# Altium footprint library Semiconductors.PcbLib: 45 footprints (part 3 of 3)
Each footprint in its own frame and in the unit in brackets; x right, y up, seen from the top. Pads: shape width x height; smd on the part's side, far side on the other; paste and mask are expansions set on the pad; w line width, h text height; cw(c..) or ccw(c..) is an arc to the next point about the centre after c.
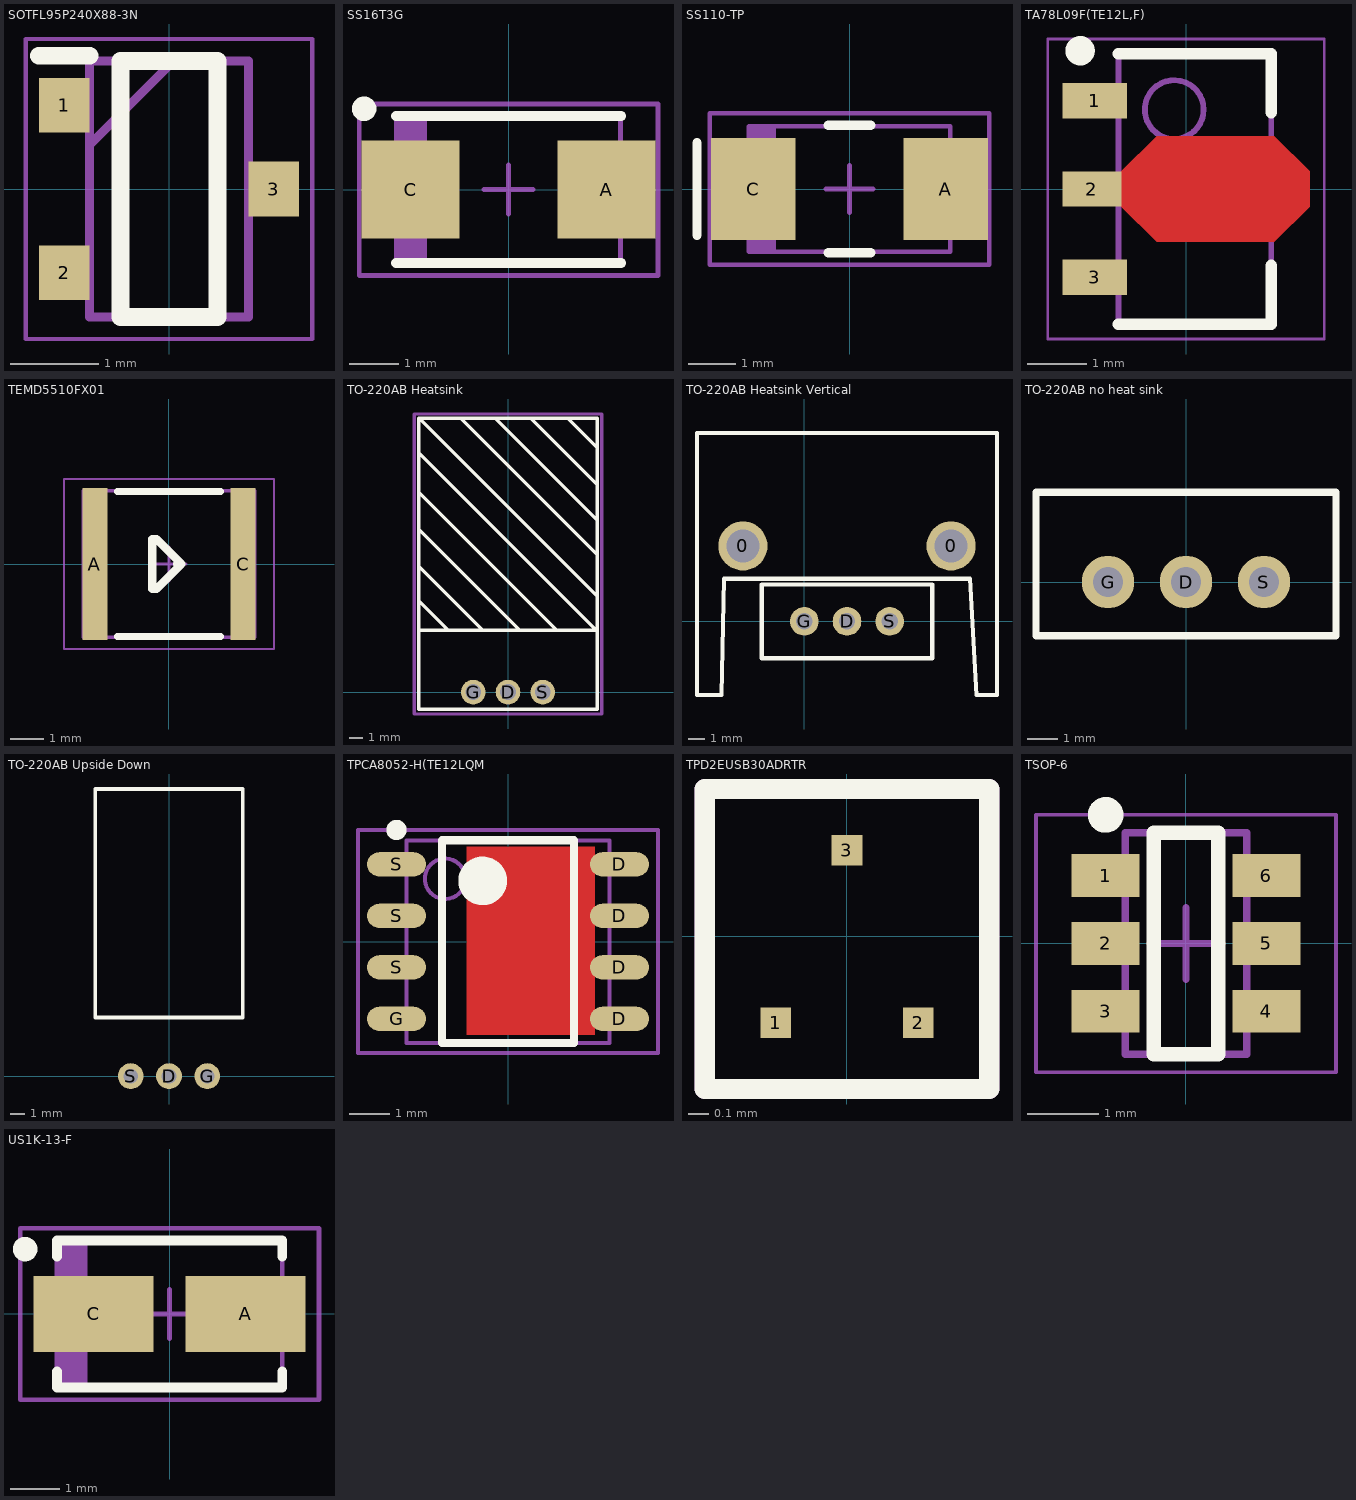
[diagram p2: the footprints below, top view; thin cyan lines are the x and y axes]

## SOTFL95P240X88-3N [mm]
pads (3):
  rect 0.575x0.62 smd: 1(-1.188,0.95) 2(-1.188,-0.95) 3(1.188,0)
Top Overlay:
  lines w0.2: -1.475,1.51 -0.9,1.51 ; -0.55,-1.45 0.55,-1.45 0.55,1.45 -0.55,1.45 -0.55,-1.45
Mechanical 13:
  lines w0.1: -0.9,0.5 0.05,1.45 ; -0.9,-1.45 0.9,-1.45 0.9,1.45 -0.9,1.45 -0.9,-1.45
Mechanical 15:
  lines w0.05: -1.625,-1.7 1.625,-1.7 1.625,1.7 -1.625,1.7 -1.625,-1.7
3D body "SSM3K329R,LF.stp": height 0.88, standoff 0, extent -1.2,-1.45 1.2,1.45

## SS16T3G [mm] "DIODE SCHOTTKY 60V 1A SMA"
height 2.2
pads (2):
  rect 2x2 smd: A(2,0) C(-2,0)
Top Overlay:
  circle w0.25: c-2.95,1.65 r0.125
  lines w0.2: -2.3,-1.5 2.3,-1.5 ; -2.3,1.5 2.3,1.5
Mechanical 13:
  rectangle: -2.285,-1.46 -1.67,1.46
  lines w0.1: -2.285,-1.46 2.285,-1.46 2.285,1.46 -2.285,1.46 -2.285,-1.46
Mechanical 15:
  lines w0.1: -0.5,0 0.5,0 ; 0,-0.5 0,0.5 ; -3.05,-1.75 3.05,-1.75 3.05,1.75 -3.05,1.75 -3.05,-1.75
3D body: height 2.2, standoff 0, extent -2.285,-1.46 2.285,1.46

## SS110-TP [mil] "DIODE SCHOTTKY 100V 1A SMA"
height 116.14
pads (2):
  rect 70x85 smd: A(80,0) C(-80,0)
Top Overlay:
  lines w7.87: -126.81,-38.56 -126.81,38.56 ; -17.72,-53.15 17.72,-53.15 ; -17.72,53.15 17.72,53.15
Mechanical 13:
  rectangle: -83.66,-52.17 -61.16,52.17
  lines w3.94: -83.66,-52.17 83.66,-52.17 83.66,52.17 -83.66,52.17 -83.66,-52.17
Mechanical 15:
  lines w3.94: -19.68,0 19.68,0 ; 0,-19.68 0,19.68 ; -116.14,-62.99 116.14,-62.99 116.14,62.99 -116.14,62.99 -116.14,-62.99
3D body: height 116.14, standoff 0, extent -83.66,-52.17 83.66,52.17

## TA78L09F(TE12L,F) [mm] "IC REG LDO 9V 0.15A PWMINI"
height 1.6
pads (3):
  rect 1.1x0.6 smd: 1(-1.55,1.5) 3(-1.55,-1.5)
  rect 1x0.6 smd: 2(-1.6,0)
Top Layer:
  region: -1.1,0.3 -0.5,0.9 1.5,0.9 2.1,0.3 2.1,-0.3 1.5,-0.9 -0.5,-0.9 -1.1,-0.3
Top Overlay:
  circle w0.25: c-1.8,2.35 r0.125
  lines w0.2: -1.15,-2.3 1.45,-2.3 1.45,-1.3 ; -1.15,2.3 1.45,2.3 1.45,1.3
Mechanical 13:
  circle w0.1: c-0.2,1.35 r0.5
  lines w0.1: -1.15,-2.3 -1.15,2.3 1.45,2.3 1.45,-2.3 -1.15,-2.3
Mechanical 15:
  lines w0.05: -2.35,-2.55 -2.35,2.55 2.35,2.55 2.35,-2.55 -2.35,-2.55
  lines w0.1: -0.35,0 0.65,0 ; 0.15,-0.5 0.15,0.5
3D body: height 1.6, standoff 0, extent -1.15,-2.3 1.45,2.3

## TEMD5510FX01 [mm] "PHOTODIODE PIN HI SPEED MINI SMD"
height 1.12
pads (2):
  rect 0.75x4.55 smd: A(-2.225,0) C(2.225,0)
Top Overlay:
  lines w0.2: -1.55,-2.175 1.55,-2.175 ; -1.55,2.175 1.55,2.175
  lines w0.254: 0.25,0 0.375,0 ; 0.375,0 -0.375,-0.75 -0.5,-0.75 -0.5,0.75 -0.375,0.75 0.375,0
Mechanical 13:
  lines w0.1: -2.575,-2.195 2.575,-2.195 2.575,2.195 -2.575,2.195 -2.575,-2.195
Mechanical 15:
  lines w0.05: -3.15,-2.55 3.15,-2.55 3.15,2.55 -3.15,2.55 -3.15,-2.55
  lines w0.1: -0.5,0 0.5,0 ; 0,-0.5 0,0.5
3D body: height 1.12, standoff 0, extent 2.075,-2.195 2.575,2.195
3D body: height 1.12, standoff 0, extent -2.575,-2.195 -2.075,2.195
3D body: height 1.12, standoff 0, extent -2.075,-2.195 2.075,2.195

## TO-220AB Heatsink [mm] "HEXFET Power MOSFET w/ Heat Sink"
height 12.7
pads (3):
  round 1.8 hole 1.15: D(0,0) G(-2.54,0) S(2.54,0)
Top Overlay:
  lines w0.25: -6.53,11.89 0.86,4.5 ; -6.53,14.59 3.51,4.55 ; -6.52,4.5 6.52,4.5 ; -6.48,6.64 -4.39,4.55 ; -6.48,9.14 -1.89,4.55 ; -6.48,17.44 6.42,4.54 ; -3.44,20 6.49,10.07 ; -0.94,20 6.49,12.57 ; 1.66,20 6.49,15.17 ; 4.36,20 6.49,17.87 ; 6.52,7 -6.48,20 -6.52,20 ; -6.52,20 -6.52,-1.25 6.52,-1.25 6.52,20 -6.52,20
Mechanical 15:
  lines w0.25: -6.84,-1.6 -6.84,20.3 6.84,20.3 6.84,-1.6 -6.84,-1.6
3D body: height 5.3, standoff 0, extent -6.44,4.5 6.36,19.9
3D body: height 12.7, standoff 0, extent -6.44,4.5 -4.04,19.9
3D body: height 12.7, standoff 0, extent 3.96,4.5 6.36,19.9
3D body: height 4.5, standoff 4, extent 2.06,0 3.06,4.7
3D body: height 4.5, standoff 4, extent -0.44,0 0.56,4.7
3D body: height 4.5, standoff 0, extent 1.96,-0.1 2.96,0.2
3D body: height 4.5, standoff 0, extent -0.5,-0.15 0.5,0.15
3D body: height 4.5, standoff 0, extent -3.04,0 -2.04,0.3
3D body: height 4.5, standoff 4, extent -3.04,0 -2.04,4.7

## TO-220AB Heatsink Vertical [mm] "Vertical Heatsink for better heat management"
height 30.5
pads (5):
  round 3 hole 2: 0(-3.75,4.6) 0(8.95,4.6)
  round 1.75 hole 1: D(2.6,0) G(0,0) S(5.2,0)
Top Overlay:
  lines w0.254: -6.55,-4.5 -6.55,11.5 11.75,11.5 11.75,-4.5 10.5,-4.5 10.1,2.6 -4.9,2.6 -5.05,-4.5 -6.55,-4.5 ; -2.6,-2.25 7.8,-2.25 7.8,2.25 -2.6,2.25 -2.6,-2.25
3D body: height 18.5, standoff 0, extent -2.54,-2.286 7.747,2.286
3D body: height 30.5, standoff 0, extent 6.096,6.858 8.382,11.557
3D body: height 30.5, standoff 0, extent -3.175,6.731 -1.27,11.557
3D body: height 30.5, standoff 0, extent 1.27,6.858 3.937,11.557
3D body: height 30.5, standoff 0, extent 10.033,6.731 11.811,11.43
3D body: height 30.5, standoff 0, extent -6.477,6.858 -5.08,11.43
3D body: height 30.5, standoff 0, extent -6.477,-4.445 11.811,6.985
3D body: height 19.5, standoff 0, extent -2.667,-2.159 7.747,2.286
3D body: height 30.5, standoff 0, extent -3.556,2.794 9.017,6.858
3D body: height 30.5, standoff 0, extent 9.906,3.937 11.811,7.239
3D body: height 30.5, standoff 0, extent -6.477,4.191 -4.699,6.985

## TO-220AB no heat sink [mm] "Vertically mounted FET without heatsink"
height 20.5
pads (3):
  round 1.75 hole 1: D(0,0) G(-2.6,0) S(2.6,0)
Top Overlay:
  lines w0.25: -5,-1.8 5,-1.8 5,3 -5,3 -5,-1.8
3D body: height 4, standoff 0, extent -2.9,-0.2 -1.9,0.1
3D body: height 4, standoff 0, extent -0.44,-0.15 0.56,0.15
3D body: height 4, standoff 0, extent 2.1,-0.3 3.1,0
3D body: height 20.5, standoff 4, extent -5,-1.775 5.025,3

## TO-220AB Upside Down [mm] "High current FET installed like Devin's motor controllers"
height 4.83
pads (3):
  round 1.75 hole 1: D(0,0) G(2.6,0) S(-2.6,0)
Top Overlay:
  lines w0.25: -5,3.975 -5,19.5 5,19.5 5,3.975 -5,3.975
3D body: height 1.5, standoff 1, extent 2,0 3,4.7
3D body: height 1.5, standoff 1, extent -0.5,0 0.5,4.7
3D body: height 1.5, standoff 0, extent 1.9,-0.1 2.9,0.2
3D body: height 1.5, standoff 0, extent -0.56,-0.15 0.44,0.15
3D body: height 1.5, standoff 0, extent -3.1,0 -2.1,0.3
3D body: height 1.5, standoff 1, extent -3.1,0 -2.1,4.7
3D body: height 4, standoff 0, extent -5.025,3.975 5.025,19.525

## TPCA8052-H(TE12LQM [mm] "MOSFET N-CH 40V 20A 8SOP"
height 0.95
pads (8):
  oval 1.45x0.6 smd: D(2.75,-1.905) D(2.75,-0.635) D(2.75,0.635) D(2.75,1.905) G(-2.75,-1.905) S(-2.75,-0.635) S(-2.75,0.635) S(-2.75,1.905)
Top Layer:
  rectangle: -1.025,-2.3 2.15,2.35
Top Overlay:
  circle w0.6: c-0.625,1.5 r0.3
  circle w0.25: c-2.75,2.755 r0.125
  lines w0.2: -1.625,-2.5 1.625,-2.5 1.625,2.5 -1.625,2.5 -1.625,-2.5
Mechanical 13:
  circle w0.1: c-1.55,1.55 r0.5
  lines w0.1: -2.5,-2.5 2.5,-2.5 2.5,2.5 -2.5,2.5 -2.5,-2.5
Mechanical 15:
  lines w0.1: -0.5,0 0.5,0 ; 0,-0.5 0,0.5 ; -3.7,-2.75 3.7,-2.75 3.7,2.75 -3.7,2.75 -3.7,-2.75
3D body: height 0.95, standoff 0.2, extent -2.5,-2.5 2.5,2.5

## TPD2EUSB30ADRTR [mm] "TVS DIODE 3.6VWM 8VC SOT3"
height 0.5
pads (3):
  rect 0.15x0.15 smd: 1(-0.35,-0.425) 2(0.35,-0.425) 3(0,0.425)
Top Overlay:
  lines w0.1: -0.7,-0.75 0.7,-0.75 0.7,0.725 -0.7,0.725 -0.7,-0.75
Mechanical 15:
  lines w0.1: -0.7,-0.75 0.7,-0.75 0.7,0.725 -0.7,0.725 -0.7,-0.75
3D body: height 0.5, standoff 0, extent -0.5,-0.4 0.5,0.4

## TSOP-6 [mm] "SOT23, 6-Leads, Body 3.00x2.75mm, Pitch 0.95mm, IPC Medium Density"
height 1.1
pads (6):
  rect 0.95x0.6 smd: 1(-1.125,0.95) 2(-1.125,0) 3(-1.125,-0.95) 4(1.125,-0.95) 5(1.125,0) 6(1.125,0.95)
Top Overlay:
  circle w0.25: c-1.125,1.8 r0.125
  lines w0.2: -0.45,-1.55 0.45,-1.55 0.45,1.55 -0.45,1.55 -0.45,-1.55
Mechanical 13:
  lines w0.1: -0.85,-1.55 -0.85,1.55 0.85,1.55 0.85,-1.55 -0.85,-1.55
Mechanical 15:
  lines w0.05: -2.1,-1.8 -2.1,1.8 2.1,1.8 2.1,-1.8 -2.1,-1.8
  lines w0.1: -0.5,0 0.5,0 ; 0,-0.5 0,0.5
3D body: height 1.1, standoff 0.01, extent -0.85,-1.55 0.85,1.55

## US1K-13-F [mm] "Molded Diode, 2-Leads, Body 4.3x2.6mm, IPC Medium Density"
height 2.3
pads (2):
  rect 2.45x1.55 smd: A(1.55,0) C(-1.55,0)
Top Overlay:
  circle w0.25: c-2.95,1.325 r0.125
  lines w0.2: -2.3,-1.175 -2.3,-1.5 2.3,-1.5 2.3,-1.175 ; -2.3,1.175 -2.3,1.5 2.3,1.5 2.3,1.175
Mechanical 13:
  rectangle: -2.3,-1.46 -1.681,1.46
  lines w0.1: -2.3,-1.46 -2.3,1.46 2.3,1.46 2.3,-1.46 -2.3,-1.46
Mechanical 15:
  lines w0.1: -0.5,0 0.5,0 ; 0,-0.5 0,0.5 ; -3.05,-1.75 -3.05,1.75 3.05,1.75 3.05,-1.75 -3.05,-1.75
3D body: height 2.3, standoff 0, extent -2.3,-1.46 2.3,1.46